# Altium footprint library CDRH6D12.PcbLib: 1 footprints
Each footprint in its own frame and in the unit in brackets; x right, y up, seen from the top. Pads: shape width x height; smd on the part's side, far side on the other; paste and mask are expansions set on the pad; w line width, h text height; cw(c..) or ccw(c..) is an arc to the next point about the centre after c.
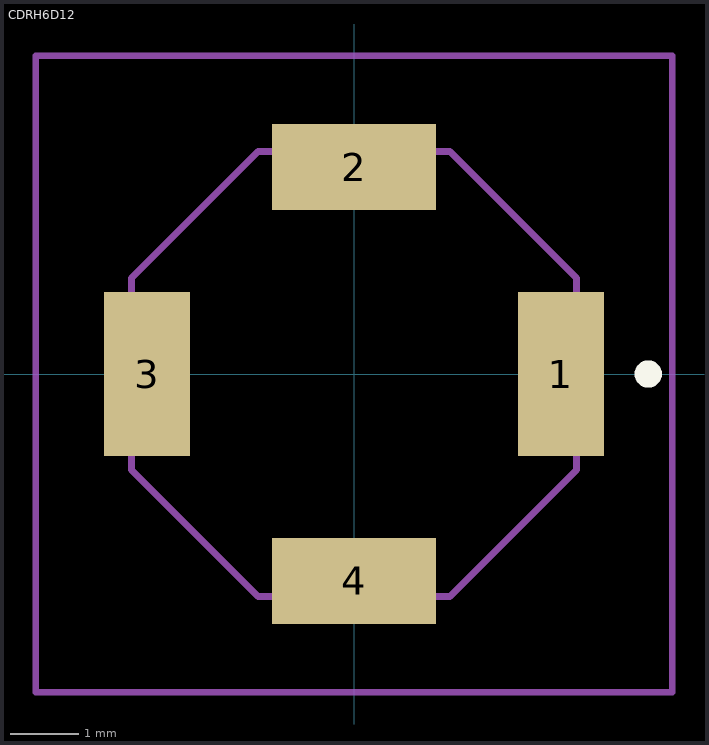
[diagram p0: the footprint, top view; thin cyan lines are the x and y axes]

## CDRH6D12 [mm]
pads (4):
  rect 1.25x2.4 smd: 1(3.025,0) 3(-3.025,0)
  rect 2.4x1.25 smd: 2(0,3.025) 4(0,-3.025)
Top Overlay:
  lines w0.2: 4.2,0 cw(c4.3,0) 4.4,0 cw(c4.3,0) 4.2,0
Mechanical 15:
  lines w0.1: -3.25,-1.4 -3.25,1.4 -1.4,3.25 1.4,3.25 3.25,1.4 3.25,-1.4 1.4,-3.25 -1.4,-3.25 -3.25,-1.4
Mechanical 20:
  lines w0.1: -4.65,-4.65 -4.65,4.65 4.65,4.65 4.65,-4.65 -4.65,-4.65
3D body "CDRH6D12NP-100NC.stp": height 1.6, standoff 0, extent -3.525,-3.525 3.525,3.525